# EAGLE library part MAX889 (library bt_regulator)
MAX889: High-Frequency, Regulated, 200mA, Inverting Charge Pump General Description The MAX889 inverting charge pump delivers a regulated negative output voltage at loads of up to 200mA. The device operates with inputs from 2.7V to 5.5V to produce an adjustable, regulated output from -2.5V to -VIN. datasheet.pdf <https://rocelec.widen.net/view/pdf/yrymcy78qe/MAXMS14295-1.pdf?t.download=true&u=5oefqw>
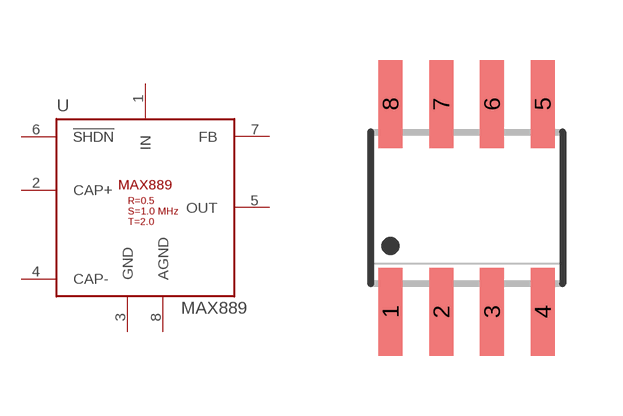
[diagram p10: symbol with the pads of SO08; footprint SO08]

Designator prefix U

## MAX889  [SO08]
1  IN
2  CAP+
3  GND
4  CAP-
5  OUT
6  !SHDN
7  FB
8  AGND

## Footprint SO08 (pad centres in mm)
SMALL OUTLINE INTEGRATED CIRCUIT body 3.9 mm/JEDEC MS-012AA
smd 0.6 x 2.2: 1 -1.905,-2.6; 2 -0.635,-2.6; 3 0.635,-2.6; 4 1.905,-2.6; 5 1.905,2.6; 6 0.635,2.6; 7 -0.635,2.6; 8 -1.905,2.6